# EAGLE library part CON_10X2F_JAE_MX34020NF1 (library JAE_MX34)
JAE MX34 Series Connector, 10x2 Rows
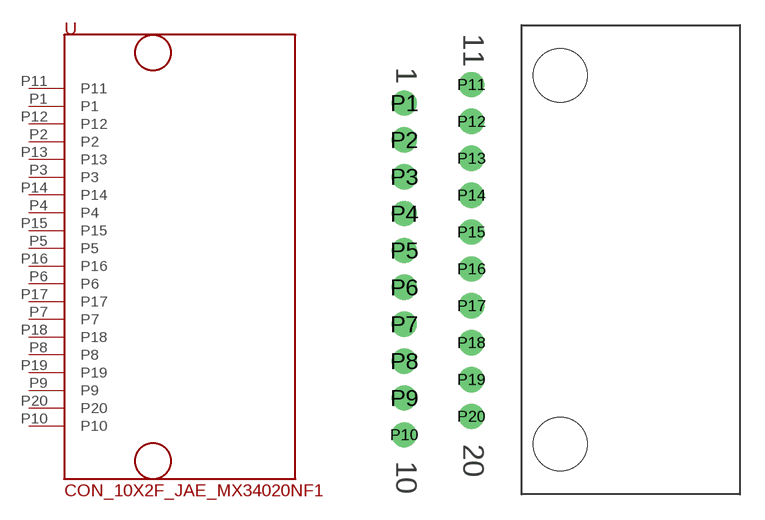
[diagram p0: symbol with the pads of CON_10X2_JAE_MX34020NF1; footprint CON_10X2_JAE_MX34020NF1]

Designator prefix -

## CON_10X2F_JAE_MX34020NF1  [CON_10X2_JAE_MX34020NF1]
P1  P1
P2  P2
P3  P3
P4  P4
P5  P5
P6  P6
P7  P7
P8  P8
P9  P9
P10  P10
P11  P11
P12  P12
P13  P13
P14  P14
P15  P15
P16  P16
P17  P17
P18  P18
P19  P19
P20  P20

## Footprint CON_10X2_JAE_MX34020NF1 (pad centres in mm)
drill 1: P1 -2,9.35; P2 -2,7.15; P3 -2,4.95; P4 -2,2.75; P5 -2,0.55; P6 -2,-1.65; P7 -2,-3.85; P8 -2,-6.05; P9 -2,-8.25; P10 -2,-10.45; P11 2,10.45; P12 2,8.25; P13 2,6.05; P14 2,3.85; P15 2,1.65; P16 2,-0.55; P17 2,-2.75; P18 2,-4.95; P19 2,-7.15; P20 2,-9.35
hole 3.2 at 7.3,11
hole 3.2 at 7.3,-11